# Altium schematic symbol library SCH - MCU - RENESAS - RENESAS R7FS7G27XXXXXXBG 176BGA.SchLib: 1 symbol
Pins are listed as number, name and electrical type; pins without a type are passive.

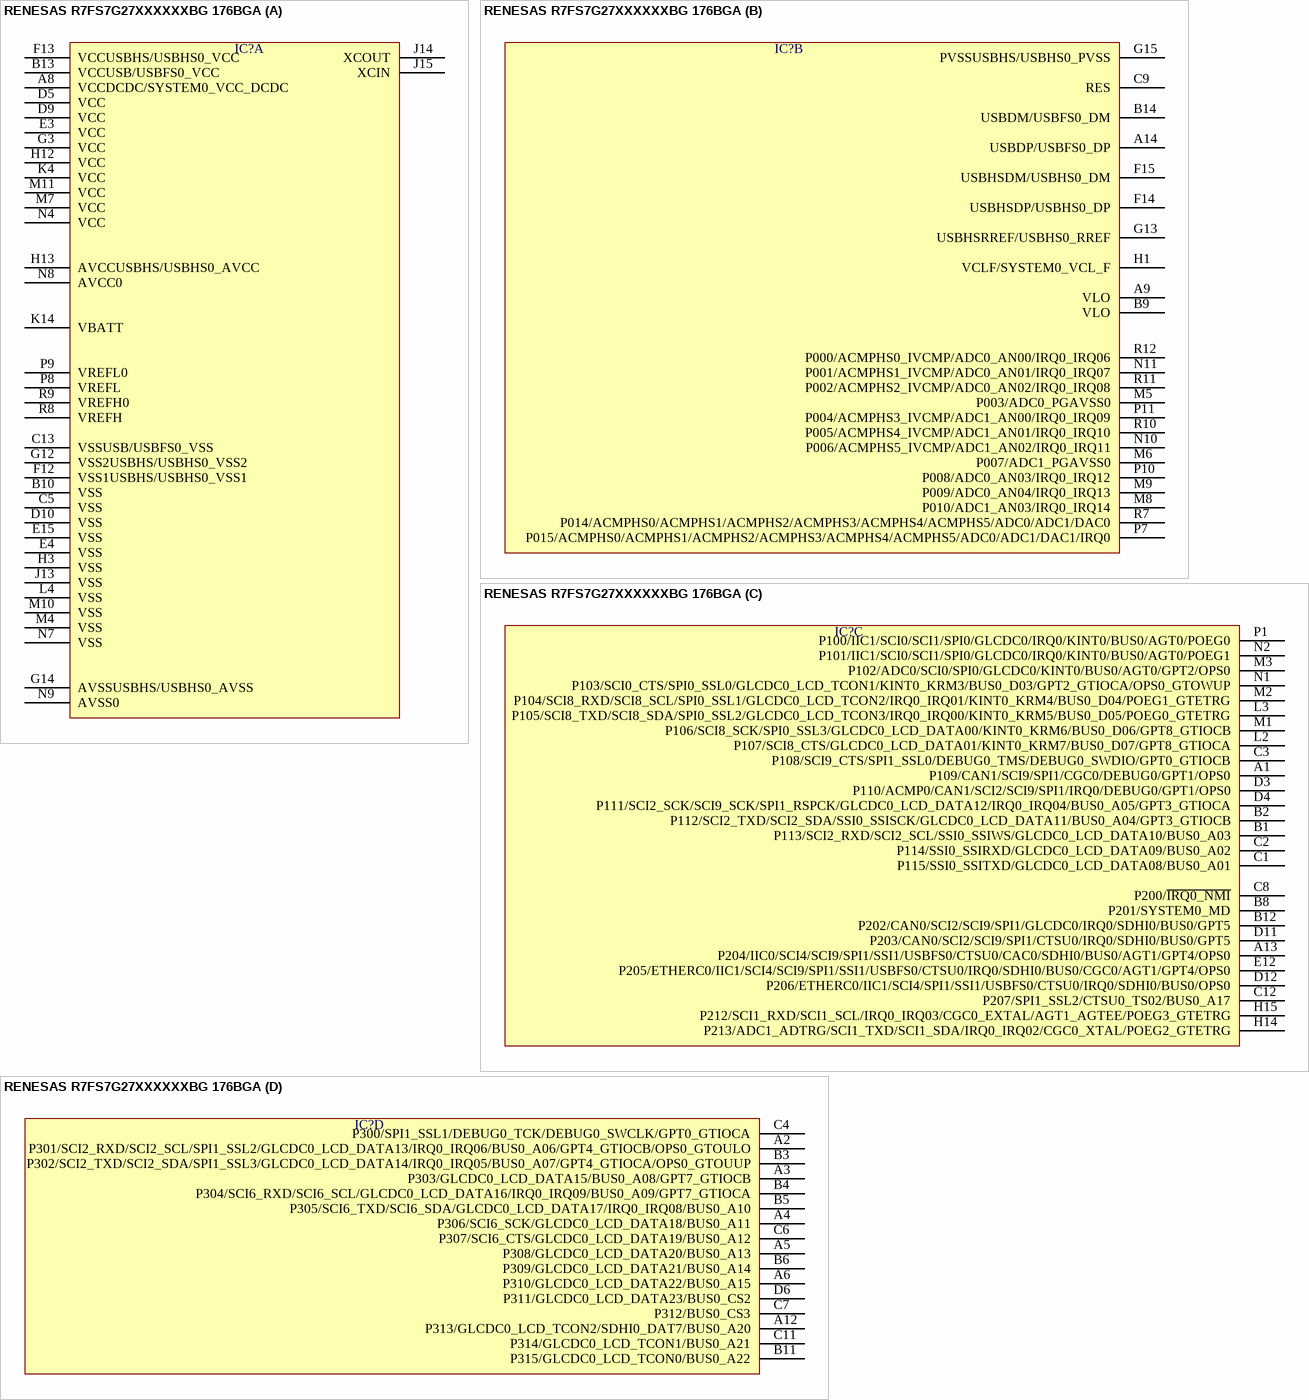
[diagram p0: symbol RENESAS R7FS7G27XXXXXXBG 176BGA]

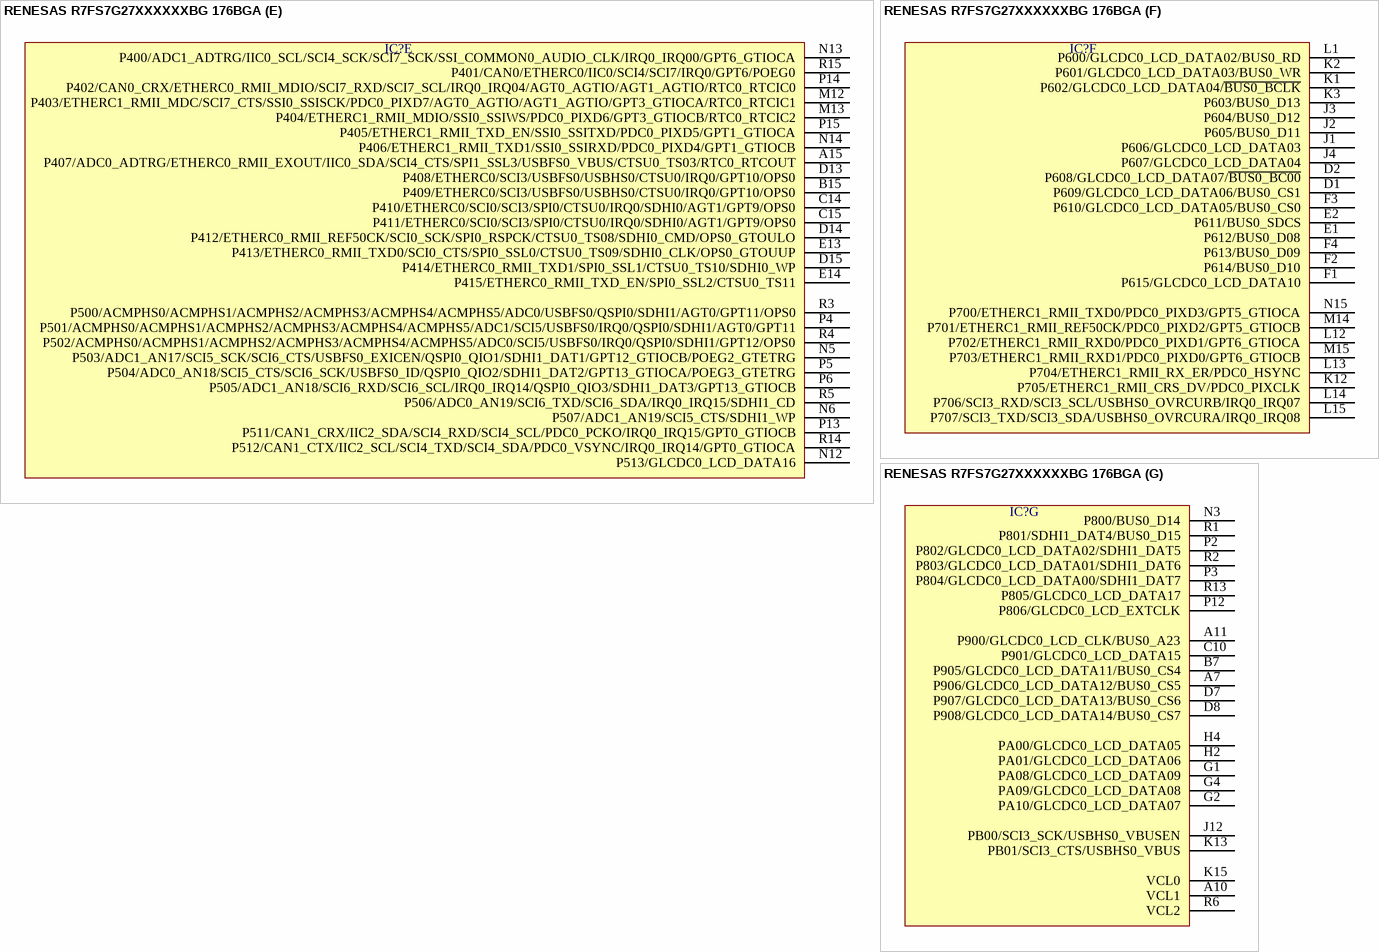
[diagram p1: symbol RENESAS R7FS7G27XXXXXXBG 176BGA]

## RENESAS R7FS7G27XXXXXXBG 176BGA
designator IC?  (value not drawn)
part A pins: A8 VCCDCDC/SYSTEM0_VCC_DCDC, B10 VSS, B13 VCCUSB/USBFS0_VCC, C5 VSS, C13 VSSUSB/USBFS0_VSS, D5 VCC, D9 VCC, D10 VSS, E3 VCC, E4 VSS, E15 VSS, F12 VSS1USBHS/USBHS0_VSS1, F13 VCCUSBHS/USBHS0_VCC, G3 VCC, G12 VSS2USBHS/USBHS0_VSS2, G14 AVSSUSBHS/USBHS0_AVSS, H3 VSS, H12 VCC, H13 AVCCUSBHS/USBHS0_AVCC, J13 VSS, J14 XCOUT, J15 XCIN, K4 VCC, K14 VBATT, L4 VSS, M4 VSS, M7 VCC, M10 VSS, M11 VCC, N4 VCC, N7 VSS, N8 AVCC0, N9 AVSS0, P8 VREFL, P9 VREFL0, R8 VREFH, R9 VREFH0
part B pins: A9 VLO, A14 USBDP/USBFS0_DP, B9 VLO, B14 USBDM/USBFS0_DM, C9 RES, F14 USBHSDP/USBHS0_DP, F15 USBHSDM/USBHS0_DM, G13 USBHSRREF/USBHS0_RREF, G15 PVSSUSBHS/USBHS0_PVSS, H1 VCLF/SYSTEM0_VCL_F, M5 P003/ADC0_PGAVSS0, M6 P007/ADC1_PGAVSS0, M8 P010/ADC1_AN03/IRQ0_IRQ14, M9 P009/ADC0_AN04/IRQ0_IRQ13, N10 P006/ACMPHS5_IVCMP/ADC1_AN02/IRQ0_IRQ11, N11 P001/ACMPHS1_IVCMP/ADC0_AN01/IRQ0_IRQ07, P7 P015/ACMPHS0/ACMPHS1/ACMPHS2/ACMPHS3/ACMPHS4/ACMPHS5/ADC0/ADC1/DAC1/IRQ0, P10 P008/ADC0_AN03/IRQ0_IRQ12, P11 P004/ACMPHS3_IVCMP/ADC1_AN00/IRQ0_IRQ09, R7 P014/ACMPHS0/ACMPHS1/ACMPHS2/ACMPHS3/ACMPHS4/ACMPHS5/ADC0/ADC1/DAC0, R10 P005/ACMPHS4_IVCMP/ADC1_AN01/IRQ0_IRQ10, R11 P002/ACMPHS2_IVCMP/ADC0_AN02/IRQ0_IRQ08, R12 P000/ACMPHS0_IVCMP/ADC0_AN00/IRQ0_IRQ06
part C pins: A1 P109/CAN1/SCI9/SPI1/CGC0/DEBUG0/GPT1/OPS0, A13 P204/IIC0/SCI4/SCI9/SPI1/SSI1/USBFS0/CTSU0/CAC0/SDHI0/BUS0/AGT1/GPT4/OPS0, B1 P113/SCI2_RXD/SCI2_SCL/SSI0_SSIWS/GLCDC0_LCD_DATA10/BUS0_A03, B2 P112/SCI2_TXD/SCI2_SDA/SSI0_SSISCK/GLCDC0_LCD_DATA11/BUS0_A04/GPT3_GTIOCB, B8 P201/SYSTEM0_MD, B12 P202/CAN0/SCI2/SCI9/SPI1/GLCDC0/IRQ0/SDHI0/BUS0/GPT5, C1 P115/SSI0_SSITXD/GLCDC0_LCD_DATA08/BUS0_A01, C2 P114/SSI0_SSIRXD/GLCDC0_LCD_DATA09/BUS0_A02, C3 P108/SCI9_CTS/SPI1_SSL0/DEBUG0_TMS/DEBUG0_SWDIO/GPT0_GTIOCB, C8 P200/~{IRQ0_NMI}, C12 P207/SPI1_SSL2/CTSU0_TS02/BUS0_A17, D3 P110/ACMP0/CAN1/SCI2/SCI9/SPI1/IRQ0/DEBUG0/GPT1/OPS0, D4 P111/SCI2_SCK/SCI9_SCK/SPI1_RSPCK/GLCDC0_LCD_DATA12/IRQ0_IRQ04/BUS0_A05/GPT3_GTIOCA, D11 P203/CAN0/SCI2/SCI9/SPI1/CTSU0/IRQ0/SDHI0/BUS0/GPT5, D12 P206/ETHERC0/IIC1/SCI4/SPI1/SSI1/USBFS0/CTSU0/IRQ0/SDHI0/BUS0/OPS0, E12 P205/ETHERC0/IIC1/SCI4/SCI9/SPI1/SSI1/USBFS0/CTSU0/IRQ0/SDHI0/BUS0/CGC0/AGT1/GPT4/OPS0, H14 P213/ADC1_ADTRG/SCI1_TXD/SCI1_SDA/IRQ0_IRQ02/CGC0_XTAL/POEG2_GTETRG, H15 P212/SCI1_RXD/SCI1_SCL/IRQ0_IRQ03/CGC0_EXTAL/AGT1_AGTEE/POEG3_GTETRG, L2 P107/SCI8_CTS/GLCDC0_LCD_DATA01/KINT0_KRM7/BUS0_D07/GPT8_GTIOCA, L3 P105/SCI8_TXD/SCI8_SDA/SPI0_SSL2/GLCDC0_LCD_TCON3/IRQ0_IRQ00/KINT0_KRM5/BUS0_D05/POEG0_GTETRG, M1 P106/SCI8_SCK/SPI0_SSL3/GLCDC0_LCD_DATA00/KINT0_KRM6/BUS0_D06/GPT8_GTIOCB, M2 P104/SCI8_RXD/SCI8_SCL/SPI0_SSL1/GLCDC0_LCD_TCON2/IRQ0_IRQ01/KINT0_KRM4/BUS0_D04/POEG1_GTETRG, M3 P102/ADC0/SCI0/SPI0/GLCDC0/KINT0/BUS0/AGT0/GPT2/OPS0, N1 P103/SCI0_CTS/SPI0_SSL0/GLCDC0_LCD_TCON1/KINT0_KRM3/BUS0_D03/GPT2_GTIOCA/OPS0_GTOWUP, N2 P101/IIC1/SCI0/SCI1/SPI0/GLCDC0/IRQ0/KINT0/BUS0/AGT0/POEG1, P1 P100/IIC1/SCI0/SCI1/SPI0/GLCDC0/IRQ0/KINT0/BUS0/AGT0/POEG0
part D pins: A2 P301/SCI2_RXD/SCI2_SCL/SPI1_SSL2/GLCDC0_LCD_DATA13/IRQ0_IRQ06/BUS0_A06/GPT4_GTIOCB/OPS0_GTOULO, A3 P303/GLCDC0_LCD_DATA15/BUS0_A08/GPT7_GTIOCB, A4 P306/SCI6_SCK/GLCDC0_LCD_DATA18/BUS0_A11, A5 P308/GLCDC0_LCD_DATA20/BUS0_A13, A6 P310/GLCDC0_LCD_DATA22/BUS0_A15, A12 P313/GLCDC0_LCD_TCON2/SDHI0_DAT7/BUS0_A20, B3 P302/SCI2_TXD/SCI2_SDA/SPI1_SSL3/GLCDC0_LCD_DATA14/IRQ0_IRQ05/BUS0_A07/GPT4_GTIOCA/OPS0_GTOUUP, B4 P304/SCI6_RXD/SCI6_SCL/GLCDC0_LCD_DATA16/IRQ0_IRQ09/BUS0_A09/GPT7_GTIOCA, B5 P305/SCI6_TXD/SCI6_SDA/GLCDC0_LCD_DATA17/IRQ0_IRQ08/BUS0_A10, B6 P309/GLCDC0_LCD_DATA21/BUS0_A14, B11 P315/GLCDC0_LCD_TCON0/BUS0_A22, C4 P300/SPI1_SSL1/DEBUG0_TCK/DEBUG0_SWCLK/GPT0_GTIOCA, C6 P307/SCI6_CTS/GLCDC0_LCD_DATA19/BUS0_A12, C7 P312/BUS0_CS3, C11 P314/GLCDC0_LCD_TCON1/BUS0_A21, D6 P311/GLCDC0_LCD_DATA23/BUS0_CS2
part E pins: A15 P407/ADC0_ADTRG/ETHERC0_RMII_EXOUT/IIC0_SDA/SCI4_CTS/SPI1_SSL3/USBFS0_VBUS/CTSU0_TS03/RTC0_RTCOUT, B15 P409/ETHERC0/SCI3/USBFS0/USBHS0/CTSU0/IRQ0/GPT10/OPS0, C14 P410/ETHERC0/SCI0/SCI3/SPI0/CTSU0/IRQ0/SDHI0/AGT1/GPT9/OPS0, C15 P411/ETHERC0/SCI0/SCI3/SPI0/CTSU0/IRQ0/SDHI0/AGT1/GPT9/OPS0, D13 P408/ETHERC0/SCI3/USBFS0/USBHS0/CTSU0/IRQ0/GPT10/OPS0, D14 P412/ETHERC0_RMII_REF50CK/SCI0_SCK/SPI0_RSPCK/CTSU0_TS08/SDHI0_CMD/OPS0_GTOULO, D15 P414/ETHERC0_RMII_TXD1/SPI0_SSL1/CTSU0_TS10/SDHI0_WP, E13 P413/ETHERC0_RMII_TXD0/SCI0_CTS/SPI0_SSL0/CTSU0_TS09/SDHI0_CLK/OPS0_GTOUUP, E14 P415/ETHERC0_RMII_TXD_EN/SPI0_SSL2/CTSU0_TS11, M12 P403/ETHERC1_RMII_MDC/SCI7_CTS/SSI0_SSISCK/PDC0_PIXD7/AGT0_AGTIO/AGT1_AGTIO/GPT3_GTIOCA/RTC0_RTCIC1, M13 P404/ETHERC1_RMII_MDIO/SSI0_SSIWS/PDC0_PIXD6/GPT3_GTIOCB/RTC0_RTCIC2, N5 P503/ADC1_AN17/SCI5_SCK/SCI6_CTS/USBFS0_EXICEN/QSPI0_QIO1/SDHI1_DAT1/GPT12_GTIOCB/POEG2_GTETRG, N6 P507/ADC1_AN19/SCI5_CTS/SDHI1_WP, N12 P513/GLCDC0_LCD_DATA16, N13 P400/ADC1_ADTRG/IIC0_SCL/SCI4_SCK/SCI7_SCK/SSI_COMMON0_AUDIO_CLK/IRQ0_IRQ00/GPT6_GTIOCA, N14 P406/ETHERC1_RMII_TXD1/SSI0_SSIRXD/PDC0_PIXD4/GPT1_GTIOCB, P4 P501/ACMPHS0/ACMPHS1/ACMPHS2/ACMPHS3/ACMPHS4/ACMPHS5/ADC1/SCI5/USBFS0/IRQ0/QSPI0/SDHI1/AGT0/GPT11, P5 P504/ADC0_AN18/SCI5_CTS/SCI6_SCK/USBFS0_ID/QSPI0_QIO2/SDHI1_DAT2/GPT13_GTIOCA/POEG3_GTETRG, P6 P505/ADC1_AN18/SCI6_RXD/SCI6_SCL/IRQ0_IRQ14/QSPI0_QIO3/SDHI1_DAT3/GPT13_GTIOCB, P13 P511/CAN1_CRX/IIC2_SDA/SCI4_RXD/SCI4_SCL/PDC0_PCKO/IRQ0_IRQ15/GPT0_GTIOCB, P14 P402/CAN0_CRX/ETHERC0_RMII_MDIO/SCI7_RXD/SCI7_SCL/IRQ0_IRQ04/AGT0_AGTIO/AGT1_AGTIO/RTC0_RTCIC0, P15 P405/ETHERC1_RMII_TXD_EN/SSI0_SSITXD/PDC0_PIXD5/GPT1_GTIOCA, R3 P500/ACMPHS0/ACMPHS1/ACMPHS2/ACMPHS3/ACMPHS4/ACMPHS5/ADC0/USBFS0/QSPI0/SDHI1/AGT0/GPT11/OPS0, R4 P502/ACMPHS0/ACMPHS1/ACMPHS2/ACMPHS3/ACMPHS4/ACMPHS5/ADC0/SCI5/USBFS0/IRQ0/QSPI0/SDHI1/GPT12/OPS0, R5 P506/ADC0_AN19/SCI6_TXD/SCI6_SDA/IRQ0_IRQ15/SDHI1_CD, R14 P512/CAN1_CTX/IIC2_SCL/SCI4_TXD/SCI4_SDA/PDC0_VSYNC/IRQ0_IRQ14/GPT0_GTIOCA, R15 P401/CAN0/ETHERC0/IIC0/SCI4/SCI7/IRQ0/GPT6/POEG0
part F pins: D1 P609/GLCDC0_LCD_DATA06/BUS0_CS1, D2 P608/GLCDC0_LCD_DATA07/~{BUS0_BC00}, E1 P612/BUS0_D08, E2 P611/BUS0_SDCS, F1 P615/GLCDC0_LCD_DATA10, F2 P614/BUS0_D10, F3 P610/GLCDC0_LCD_DATA05/BUS0_CS0, F4 P613/BUS0_D09, J1 P606/GLCDC0_LCD_DATA03, J2 P605/BUS0_D11, J3 P604/BUS0_D12, J4 P607/GLCDC0_LCD_DATA04, K1 P602/GLCDC0_LCD_DATA04/~{BUS0_BCLK}, K2 P601/GLCDC0_LCD_DATA03/BUS0_WR, K3 P603/BUS0_D13, K12 P705/ETHERC1_RMII_CRS_DV/PDC0_PIXCLK, L1 P600/GLCDC0_LCD_DATA02/BUS0_RD, L12 P702/ETHERC1_RMII_RXD0/PDC0_PIXD1/GPT6_GTIOCA, L13 P704/ETHERC1_RMII_RX_ER/PDC0_HSYNC, L14 P706/SCI3_RXD/SCI3_SCL/USBHS0_OVRCURB/IRQ0_IRQ07, L15 P707/SCI3_TXD/SCI3_SDA/USBHS0_OVRCURA/IRQ0_IRQ08, M14 P701/ETHERC1_RMII_REF50CK/PDC0_PIXD2/GPT5_GTIOCB, M15 P703/ETHERC1_RMII_RXD1/PDC0_PIXD0/GPT6_GTIOCB, N15 P700/ETHERC1_RMII_TXD0/PDC0_PIXD3/GPT5_GTIOCA
part G pins: A7 P906/GLCDC0_LCD_DATA12/BUS0_CS5, A10 VCL1, A11 P900/GLCDC0_LCD_CLK/BUS0_A23, B7 P905/GLCDC0_LCD_DATA11/BUS0_CS4, C10 P901/GLCDC0_LCD_DATA15, D7 P907/GLCDC0_LCD_DATA13/BUS0_CS6, D8 P908/GLCDC0_LCD_DATA14/BUS0_CS7, G1 PA08/GLCDC0_LCD_DATA09, G2 PA10/GLCDC0_LCD_DATA07, G4 PA09/GLCDC0_LCD_DATA08, H2 PA01/GLCDC0_LCD_DATA06, H4 PA00/GLCDC0_LCD_DATA05, J12 PB00/SCI3_SCK/USBHS0_VBUSEN, K13 PB01/SCI3_CTS/USBHS0_VBUS, K15 VCL0, N3 P800/BUS0_D14, P2 P802/GLCDC0_LCD_DATA02/SDHI1_DAT5, P3 P804/GLCDC0_LCD_DATA00/SDHI1_DAT7, P12 P806/GLCDC0_LCD_EXTCLK, R1 P801/SDHI1_DAT4/BUS0_D15, R2 P803/GLCDC0_LCD_DATA01/SDHI1_DAT6, R6 VCL2, R13 P805/GLCDC0_LCD_DATA17